# Altium footprint library ConnectorAMP.PcbLib: 2 footprints
Each footprint in its own frame and in the unit in brackets; x right, y up, seen from the top. Pads: shape width x height; smd on the part's side, far side on the other; paste and mask are expansions set on the pad; w line width, h text height; cw(c..) or ccw(c..) is an arc to the next point about the centre after c.
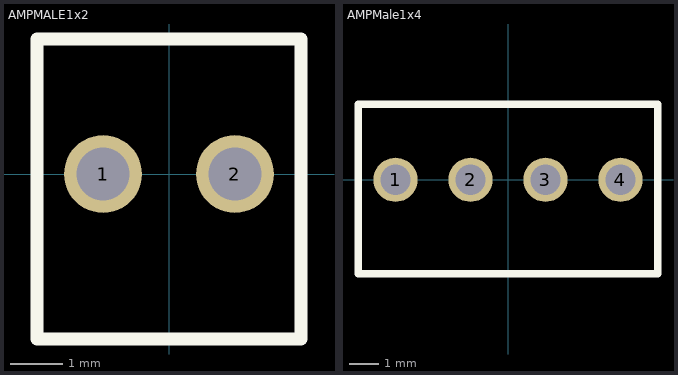
[diagram p0: the footprints below, top view; thin cyan lines are the x and y axes]

## AMPMALE1x2 [mm]
pads (2):
  round 1.5 hole 1.02: 1(-1.27,0) 2(1.27,0)
Top Overlay:
  lines w0.254: -2.54,-3.175 -2.54,2.6 2.54,2.6 2.54,-3.175 -2.54,-3.175
3D body: height 11.4, standoff -3.4, extent -2.52,-3.2 2.6,2.6

## AMPMale1x4 [mm]
pads (4):
  round 1.5 hole 1.02: 1(-3.81,0) 2(-1.27,0) 3(1.27,0) 4(3.81,0)
Top Overlay:
  lines w0.254: -5.08,-3.175 -5.08,2.55 5.08,2.55 5.08,-3.175 -5.08,-3.175
3D body: height 11.4, standoff -3.4, extent -5.1,-3.2 5.1,2.6